# Altium footprint library WiDSO.PcbLib: 33 footprints (part 2 of 3)
Each footprint in its own frame and in the unit in brackets; x right, y up, seen from the top. Pads: shape width x height; smd on the part's side, far side on the other; paste and mask are expansions set on the pad; w line width, h text height; cw(c..) or ccw(c..) is an arc to the next point about the centre after c.
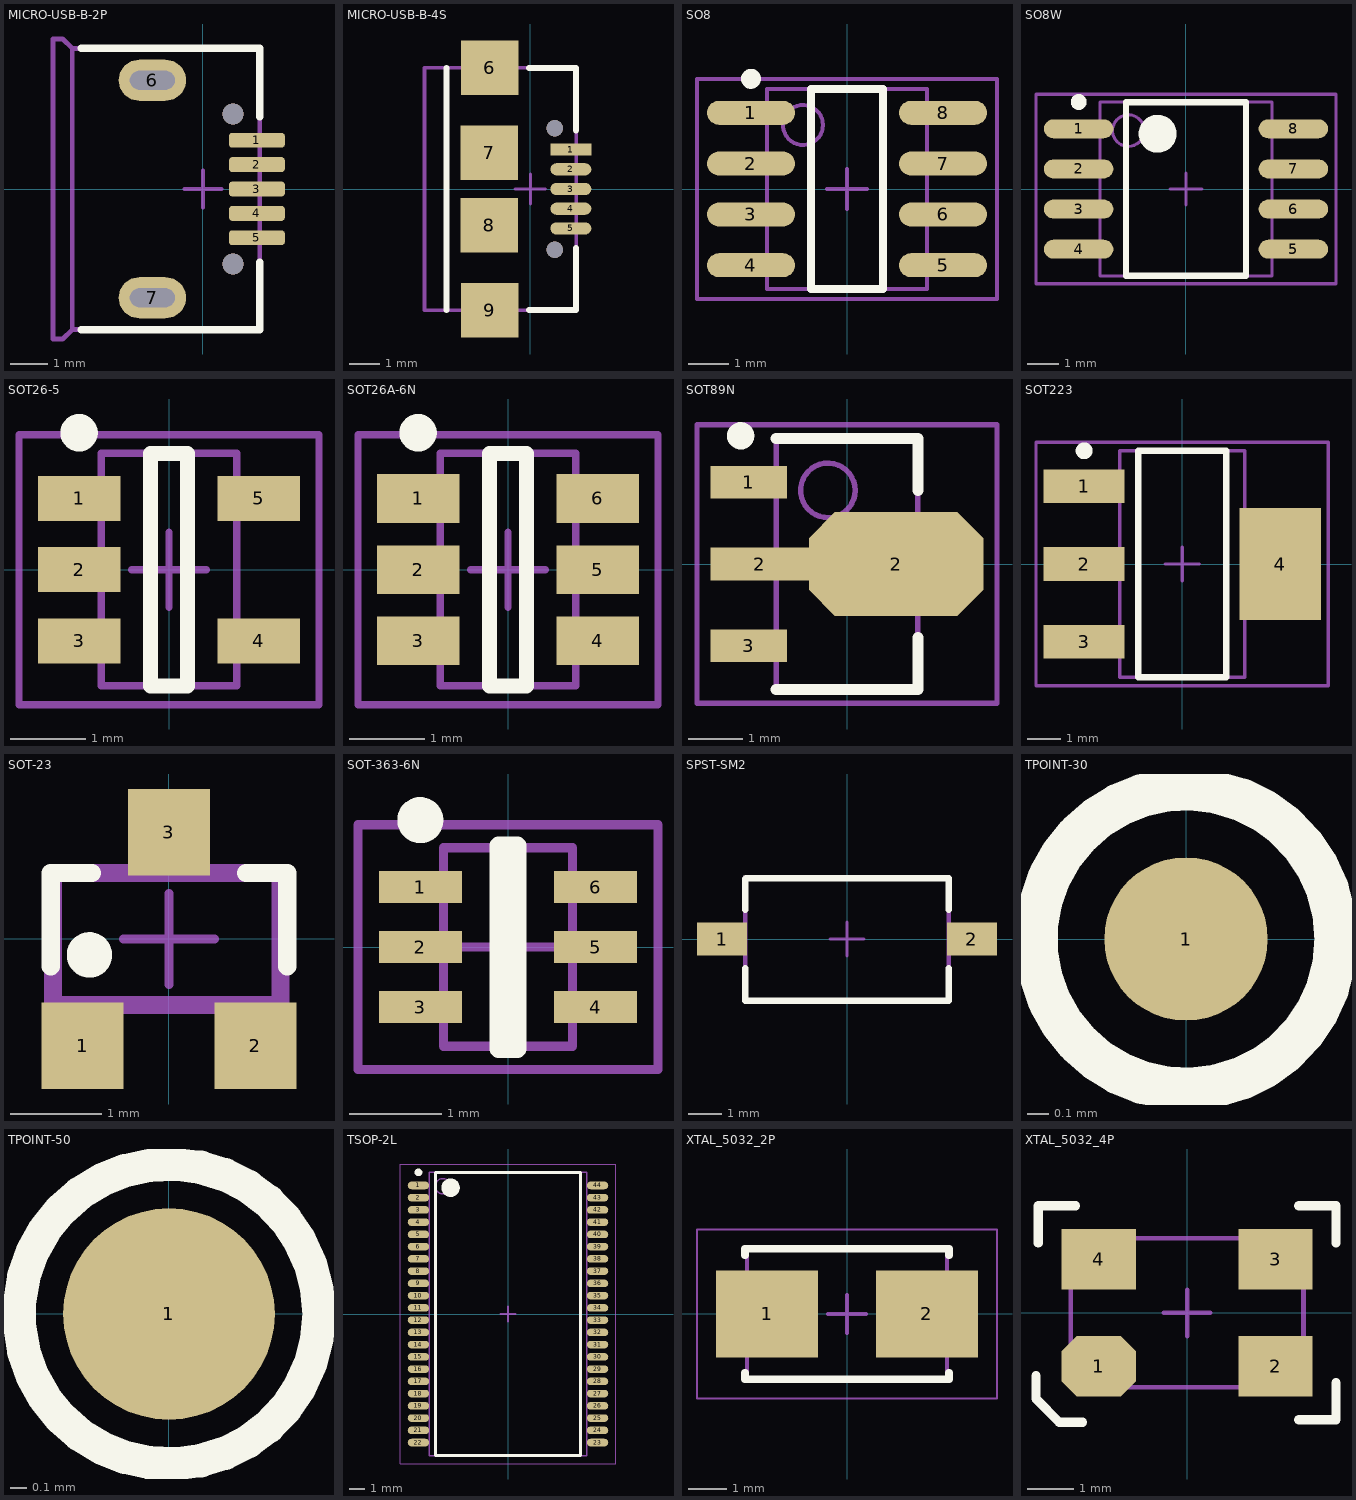
[diagram p1: the footprints below, top view; thin cyan lines are the x and y axes]

## MICRO-USB-B-2P [mm] "直插2脚固定MicroUSB贴片母座"
pads (7):
  rrect50% 1.5x0.4 smd: 1(1.438,1.3) 2(1.438,0.65) 3(1.438,0) 4(1.438,-0.65) 5(1.438,-1.3)
  oval 1.8x1.1 hole 0.5 slot 1.2 at 0 deg: 6(-1.35,2.9) 7(-1.35,-2.9)
via 0.8,-2 diameter 0.55 hole 0.55
via 0.8,2 diameter 0.55 hole 0.55
Top Overlay:
  lines w0.2: -3.25,-3.75 1.513,-3.75 1.513,-1.95 ; -3.25,3.75 1.513,3.75 1.513,1.925
Mechanical 13:
  lines w0.127: -3.487,-3.75 -3.737,-4 -4,-4 -4,4 -3.738,4 -3.488,3.75 ; -3.487,-3.75 1.513,-3.75 1.513,3.75 -3.487,3.75 ; -3.487,-3.75 -3.487,3.75
Mechanical 15:
  lines w0.1: -0.5,0 0.5,0 ; 0,-0.5 0,0.5
3D body: height 2.8, standoff -0.2, extent -4,-4 -3.487,4
3D body: height 2.6, standoff 0, extent -3.488,-3.75 1.5,3.75

## MICRO-USB-B-4S [mm] "MicroUSB贴片母座"
pads (9):
  rect 1.35x0.4 smd: 1(1.338,1.3)
  oval 1.35x0.4 smd: 2(1.338,0.65) 3(1.338,0) 4(1.338,-0.65) 5(1.338,-1.3)
  rect 1.9x1.8 smd: 6(-1.337,4) 7(-1.35,1.2) 8(-1.35,-1.2) 9(-1.337,-4)
via 0.8,-2 diameter 0.55 hole 0.55
via 0.8,2 diameter 0.55 hole 0.55
Top Overlay:
  lines w0.2: -2.762,-4 -2.762,4 ; -0.038,-4 1.513,-4 1.513,-1.95 ; -0.038,4 1.513,4 1.513,1.925
Mechanical 13:
  lines w0.127: -3.487,-4 1.513,-4 1.513,4 -3.487,4 -3.487,-4
Mechanical 15:
  lines w0.1: -2.8,-4 -2.8,4 ; -0.5,0 0.5,0 ; 0,-0.5 0,0.5
3D body: height 2.5, standoff 0, extent -3.487,-4 1.513,3.975

## SO8 [mm] "SOIC, 8-Leads, Body 4.9x3.9mm, Pitch 1.27mm, IPC Medium Density"
height 1.75
pads (8):
  oval 2.2x0.6 smd: 1(-2.4,1.905) 2(-2.4,0.635) 3(-2.4,-0.635) 4(-2.4,-1.905) 5(2.4,-1.905) 6(2.4,-0.635) 7(2.4,0.635) 8(2.4,1.905)
Top Overlay:
  circle w0.25: c-2.4,2.755 r0.125
  lines w0.2: -0.9,-2.5 0.9,-2.5 0.9,2.5 -0.9,2.5 -0.9,-2.5
Mechanical 13:
  circle w0.1: c-1.1,1.6 r0.5
  lines w0.1: -2,-2.5 2,-2.5 2,2.5 -2,2.5 -2,-2.5
Mechanical 15:
  lines w0.1: -0.5,0 0.5,0 ; 0,-0.5 0,0.5 ; -3.75,-2.75 3.75,-2.75 3.75,2.75 -3.75,2.75 -3.75,-2.75
3D body: height 1.75, standoff 0, extent -2,-2.5 2,2.5

## SO8W [mm] "SOP8宽体208mil"
height 2.13
pads (8):
  oval 2.2x0.6 smd: 1(-3.4,1.905) 2(-3.4,0.635) 3(-3.4,-0.635) 4(-3.4,-1.905) 5(3.4,-1.905) 6(3.4,-0.635) 7(3.4,0.635) 8(3.4,1.905)
Top Overlay:
  circle w0.6: c-0.9,1.75 r0.3
  circle w0.25: c-3.4,2.755 r0.125
  lines w0.2: -1.9,-2.75 1.9,-2.75 1.9,2.75 -1.9,2.75 -1.9,-2.75
Mechanical 13:
  circle w0.1: c-1.825,1.85 r0.5
  lines w0.1: -2.725,-2.75 2.725,-2.75 2.725,2.75 -2.725,2.75 -2.725,-2.75
Mechanical 15:
  lines w0.1: -0.5,0 0.5,0 ; 0,-0.5 0,0.5 ; -4.75,-3 4.75,-3 4.75,3 -4.75,3 -4.75,-3
3D body: height 2.13, standoff 0, extent -2.725,-2.75 2.725,2.75

## SOT26-5 [mm] "SOT26-5"
pads (5):
  rect 1.1x0.6 smd: 1(-1.2,0.95) 2(-1.2,0) 3(-1.2,-0.95) 4(1.2,-0.95) 5(1.2,0.95)
Top Overlay:
  circle w0.25: c-1.2,1.825 r0.125
  lines w0.2: -0.25,-1.55 -0.25,1.55 0.25,1.55 0.25,-1.55 -0.25,-1.55
Mechanical 13:
  lines w0.1: -0.9,-1.55 0.9,-1.55 0.9,1.55 -0.9,1.55 -0.9,-1.55
Mechanical 15:
  lines w0.1: -0.5,0 0.5,0 ; 0,-0.5 0,0.5 ; -2,-1.8 2,-1.8 2,1.8 -2,1.8 -2,-1.8
3D body: height 1.45, standoff 0, extent -0.9,-1.55 0.9,1.55

## SOT26A-6N [mm] "SOT26A-6N"
pads (6):
  rect 1.1x0.65 smd: 1(-1.2,0.95) 2(-1.2,0) 3(-1.2,-0.95) 4(1.2,-0.95) 5(1.2,0) 6(1.2,0.95)
Top Overlay:
  circle w0.25: c-1.2,1.825 r0.125
  lines w0.2: -0.25,-1.55 0.25,-1.55 0.25,1.55 -0.25,1.55 -0.25,-1.55
Mechanical 13:
  lines w0.1: -0.9,-1.55 -0.9,1.55 0.9,1.55 0.9,-1.55 -0.9,-1.55
Mechanical 15:
  lines w0.1: -0.5,0 0.5,0 ; 0,-0.5 0,0.5 ; -2,-1.8 -2,1.8 2,1.8 2,-1.8 -2,-1.8
3D body: height 1.45, standoff 0, extent -0.9,-1.55 0.9,1.55

## SOT89N [mm] "SOT89, 3-Leads, Body 4.5x2.4 mm, Pitch 1.5mm, Lead Span 4.1mm, IPC Medium Density"
height 1.6
pads (4):
  rect 1.4x0.6 smd: 1(-1.8,1.5) 3(-1.8,-1.5)
  rect 1.8x0.6 smd: 2(-1.6,0)
  oct 3.2x1.9 smd: 2(0.9,0)
Top Overlay:
  circle w0.25: c-1.95,2.35 r0.125
  lines w0.2: -1.3,-2.3 1.3,-2.3 1.3,-1.35 ; -1.3,2.3 1.3,2.3 1.3,1.35
Mechanical 13:
  circle w0.1: c-0.35,1.35 r0.5
  lines w0.1: -1.3,-2.3 1.3,-2.3 1.3,2.3 -1.3,2.3 -1.3,-2.3
Mechanical 15:
  lines w0.1: -0.5,0 0.5,0 ; 0,-0.5 0,0.5 ; -2.75,-2.55 2.75,-2.55 2.75,2.55 -2.75,2.55 -2.75,-2.55
3D body: height 1.6, standoff 0, extent -1.3,-2.3 1.3,2.3

## SOT223 [mm] "SOT223, 4-Leads, Body 6.7x7.3mm (max), Pitch 2.30mm, IPC Medium Density"
height 1.8
pads (4):
  rect 2.4x1 smd: 1(-2.9,2.3) 2(-2.9,0) 3(-2.9,-2.3)
  rect 2.4x3.3 smd: 4(2.9,0)
Top Overlay:
  circle w0.25: c-2.9,3.35 r0.125
  lines w0.2: -1.3,-3.35 1.3,-3.35 1.3,3.35 -1.3,3.35 -1.3,-3.35
Mechanical 13:
  lines w0.1: -1.85,-3.35 1.85,-3.35 1.85,3.35 -1.85,3.35 -1.85,-3.35
Mechanical 15:
  lines w0.1: -0.5,0 0.5,0 ; 0,-0.5 0,0.5 ; -4.325,-3.6 4.325,-3.6 4.325,3.6 -4.325,3.6 -4.325,-3.6
3D body: height 1.8, standoff 0.02, extent -1.85,-3.35 1.85,3.35

## SOT-23 [mm] "SOT-23"
pads (3):
  rect 0.9x0.95 smd: 1(-0.95,-1.175) 2(0.95,-1.175) 3(0,1.175)
Top Overlay:
  circle w0.25: c-0.875,-0.175 r0.125
  lines w0.2: -1.3,-0.3 -1.3,0.725 -0.85,0.725 ; 0.85,0.725 1.3,0.725 1.3,-0.3
Mechanical 13:
  lines w0.2: -1.275,-0.725 1.225,-0.725 1.225,0.725 -1.275,0.725 -1.275,-0.725
Mechanical 15:
  lines w0.1: -0.5,0 0.5,0 ; 0,-0.5 0,0.5
3D body: height 1.1, standoff 0, extent -1.3,-0.725 1.225,0.725

## SOT-363-6N [mm] "SOT23, 6-Leads, Body 2.2x2.4mm (max), Pitch 0.65mm, IPC Medium Density"
height 1.1
pads (6):
  rect 0.9x0.35 smd: 1(-0.95,0.65) 2(-0.95,0) 3(-0.95,-0.65) 4(0.95,-0.65) 5(0.95,0) 6(0.95,0.65)
Top Overlay:
  circle w0.25: c-0.95,1.375 r0.125
  lines w0.2: -0.1,-1.1 0.1,-1.1 0.1,1.1 -0.1,1.1 -0.1,-1.1
Mechanical 13:
  lines w0.1: -0.7,-1.075 -0.7,1.075 0.7,1.075 0.7,-1.075 -0.7,-1.075
Mechanical 15:
  lines w0.1: -0.5,0 0.5,0 ; 0,-0.5 0,0.5 ; -1.625,-1.325 -1.625,1.325 1.625,1.325 1.625,-1.325 -1.625,-1.325
3D body: height 1.1, standoff 0.05, extent -0.7,-1.075 0.7,1.075

## SPST-SM2 [mm] "贴片按键"
pads (2):
  rect 1.5x1 smd: 1(-3.75,0) 2(3.75,0)
Top Overlay:
  lines w0.2: -3.05,-0.875 -3.05,-1.85 3.05,-1.85 3.05,-0.875 ; -3.05,0.875 -3.05,1.8 ; 3.05,0.875 3.05,1.825 -3.025,1.825 -3.05,1.8 ; -3.05,1.8 -3.05,1.8
Mechanical 13:
  lines w0.127: -3.05,-1.85 3.05,-1.85 3.05,1.85 -3.05,1.85 -3.05,-1.85
Mechanical 15:
  lines w0.1: -0.5,0 0.5,0 ; 0,-0.5 0,0.5
3D body: height 2.5, standoff 2, extent -1.25,-0.625 1.25,0.625
3D body: height 2, standoff 0, extent -3.025,-1.85 3.075,1.85

## TPOINT-30 [mil] "测试点30*30mil"
pads (1):
  round 30 smd: 1(0,0)
Top Overlay:
  circle w7.87: c0,0 r27.56

## TPOINT-50 [mm] "测试点50*50mil"
pads (1):
  round 1.27 smd: 1(0,0)
Top Overlay:
  circle w0.2: c0,0 r0.9

## TSOP-2L [mm] "TSOP, 44-Leads, Body 18.40x10.16mm, Pitch 0.80mm, IPC Low Density"
height 1.2
pads (44):
  oval 1.4x0.5 smd: 1(-5.85,8.4) 2(-5.85,7.6) 3(-5.85,6.8) 4(-5.85,6) 5(-5.85,5.2) 6(-5.85,4.4) 7(-5.85,3.6) 8(-5.85,2.8) 9(-5.85,2) 10(-5.85,1.2) 11(-5.85,0.4) 12(-5.85,-0.4) 13(-5.85,-1.2) 14(-5.85,-2) 15(-5.85,-2.8) 16(-5.85,-3.6) 17(-5.85,-4.4) 18(-5.85,-5.2) 19(-5.85,-6) 20(-5.85,-6.8) 21(-5.85,-7.6) 22(-5.85,-8.4) 23(5.85,-8.4) 24(5.85,-7.6) 25(5.85,-6.8) 26(5.85,-6) 27(5.85,-5.2) 28(5.85,-4.4) 29(5.85,-3.6) 30(5.85,-2.8) 31(5.85,-2) 32(5.85,-1.2) 33(5.85,-0.4) 34(5.85,0.4) 35(5.85,1.2) 36(5.85,2) 37(5.85,2.8) 38(5.85,3.6) 39(5.85,4.4) 40(5.85,5.2) 41(5.85,6) 42(5.85,6.8) 43(5.85,7.6) 44(5.85,8.4)
Top Overlay:
  circle w0.25: c-5.85,9.25 r0.125
  circle w0.6: c-3.75,8.25 r0.3
  lines w0.2: -4.75,-9.25 -4.75,9.25 4.75,9.25 4.75,-9.25 -4.75,-9.25
Mechanical 13:
  circle w0.1: c-4.25,8.35 r0.5
  lines w0.1: -5.15,-9.25 -5.15,9.25 5.15,9.25 5.15,-9.25 -5.15,-9.25
Mechanical 15:
  lines w0.05: -7.05,-9.8 -7.05,9.8 7.05,9.8 7.05,-9.8 -7.05,-9.8
  lines w0.1: -0.5,0 0.5,0 ; 0,-0.5 0,0.5
3D body: height 1.2, standoff 0.05, extent -5.15,-9.25 5.15,9.25

## XTAL_5032_2P [mm] "2脚5mm*3.2mm贴片晶振"
height 1.5
pads (2):
  rect 2.65x2.25 smd: 1(-2.075,0) 2(2.075,0)
Top Overlay:
  lines w0.2: -2.65,-1.525 -2.65,-1.7 2.65,-1.7 2.65,-1.525 ; -2.65,1.525 -2.65,1.7 2.65,1.7 2.65,1.525
Mechanical 13:
  lines w0.1: -2.6,-1.7 2.6,-1.7 2.6,1.7 -2.6,1.7 -2.6,-1.7
Mechanical 15:
  lines w0.05: -3.9,-2.2 3.9,-2.2 3.9,2.2 -3.9,2.2 -3.9,-2.2
  lines w0.1: -0.5,0 0.5,0 ; 0,-0.5 0,0.5
3D body: height 1.5, standoff 0, extent -2.6,-1.7 2.6,1.7

## XTAL_5032_4P [mm] "4脚5mm*3.2mm贴片晶振"
pads (4):
  oct 1.6x1.3 smd: 1(-1.9,-1.15)
  rect 1.6x1.3 smd: 2(1.9,-1.15) 3(1.9,1.15) 4(-1.9,1.15)
Top Overlay:
  lines w0.2: -3.25,-1.35 -3.25,-1.85 -2.75,-2.35 -2.25,-2.35 ; -3.2,1.5 -3.2,2.3 -2.4,2.3 ; 2.4,-2.3 3.2,-2.3 3.2,-1.5 ; 2.4,2.3 3.2,2.3 3.2,1.5
Mechanical 13:
  lines w0.1: -2.5,-1.6 -2.5,1.6 2.5,1.6 2.5,-1.6 -2.5,-1.6
Mechanical 15:
  lines w0.1: -0.5,0 0.5,0 ; 0,-0.5 0,0.5
3D body: height 0.8, standoff 0, extent -2.5,-1.6 2.5,1.6